# Altium schematic symbol library WS2812.SchLib: 1 symbol
Pins are listed as number, name and electrical type; pins without a type are passive.

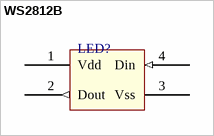
[diagram p0: symbol WS2812B]

## WS2812B
designator LED?  (value not drawn)
footprint WS2812B
pins: 1 Vdd (power), 2 Dout (out), 3 Vss (power), 4 Din (in)